# EAGLE library part T37-43_TRIFILAR_TRANSFORMER (library jim_muppet_parts)
Transformer (having 3 windings) on a T37-43 Toroid
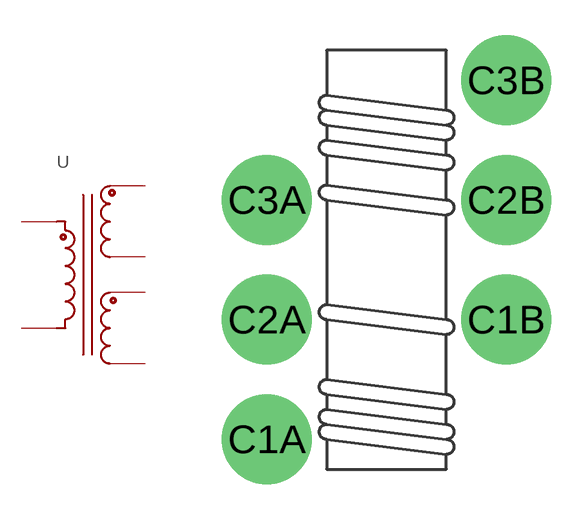
[diagram p0: symbol with the pads of T37-43_TRIFILAR_TRANSFORMER; footprint T37-43_TRIFILAR_TRANSFORMER]

Designator prefix -

## T37-43_TRIFILAR_TRANSFORMER  [T37-43_TRIFILAR_TRANSFORMER]
C1A  C1A
C1B  C1B
C2A  C2A
C2B  C2B
C3A  C3A
C3B  C3B

## Footprint T37-43_TRIFILAR_TRANSFORMER (pad centres in mm)
Transformer (having 3 windings) on a T50 Toroid
drill 0 pad 3.81: C1A -5.08,-7.62; C1B 5.08,-2.54; C2A -5.08,-2.54; C2B 5.08,2.54; C3A -5.08,2.54; C3B 5.08,7.62